# Altium integrated library AD Variable Gain Amplifier.IntLib: 9 symbols
Pins are listed as number, name and electrical type; pins without a type are passive.

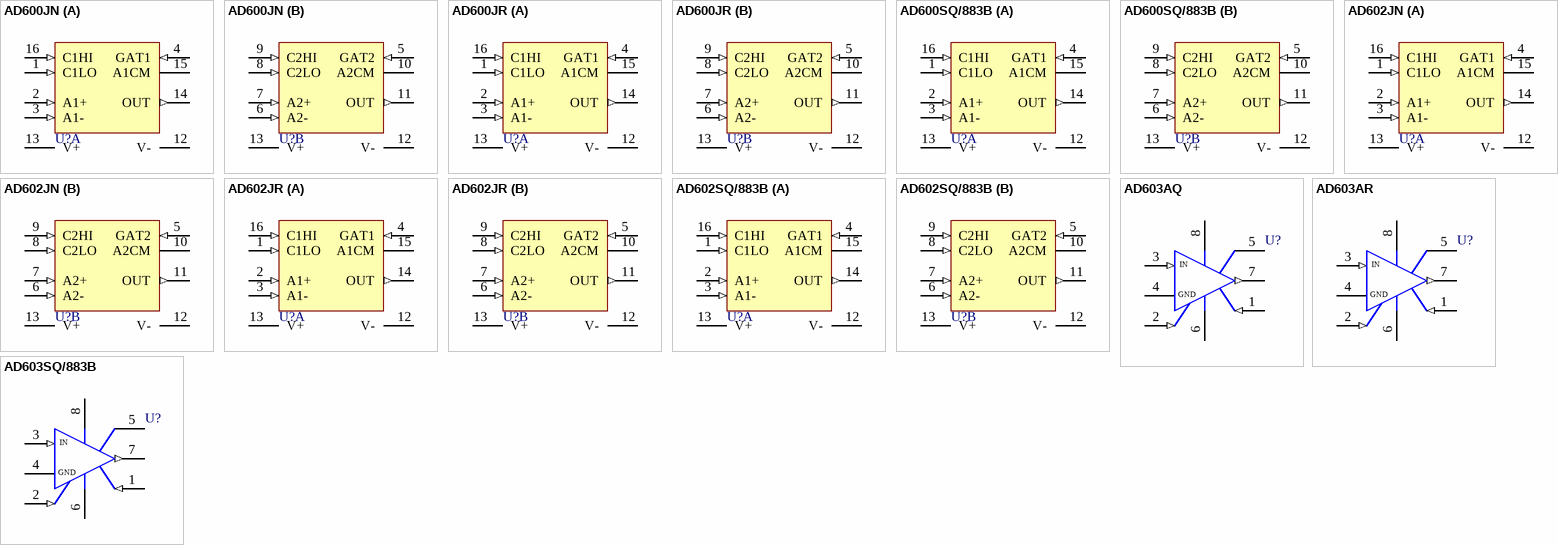
[diagram p0: symbols AD600JN to AD603SQ/883B]

## AD600JN
designator U?
Dual, Low-Noise, Wideband Variable Gain Amplifier; Published: 8-Jun-2000; LatestRevisionDate: 04-Mar-2005; LatestRevisionNote: Stylized 3D Model Added.; DatasheetVersion: REV. A 1999; PackageVersion: revC; PackageReference: N-16_B; Publisher: Altium Limited; PackageDescription: DIP; 16 Leads; Row Spacing 7.62 mm; Pitch 2.54 mm; ComponentLink1Description: Manufacturer Link; ComponentLink1URL: http://www.analog.com/en/prod/0%2C2877%2CAD600%2C00.html; ComponentLink2Description: Datasheet; ComponentLink2URL: http://www.analog.com/UploadedFiles/Data_Sheets/470616575AD600_2_d.pdf
footprint N-16_B (DIP; 16 Leads; Row Spacing 7.62 mm; Pitch 2.54 mm)
3D model N16-B (DIP; 16 Leads; Row Spacing 7.62 mm; Pitch 2.54 mm)
simulation model AD600J (SUBCKT)
pins on every part: 12 V- (power), 13 V+ (power)
part A pins: 1 C1LO (in), 2 A1+ (in), 3 A1- (in), 4 GAT1 (in), 14 OUT (out), 15 A1CM, 16 C1HI (in)
part B pins: 5 GAT2 (in), 6 A2- (in), 7 A2+ (in), 8 C2LO (in), 9 C2HI (in), 10 A2CM, 11 OUT (out)

## AD600JR
designator U?
Dual, Low-Noise, Wideband Variable Gain Amplifier; Published: 8-Jun-2000; LatestRevisionDate: 13-Apr-2006; LatestRevisionNote: IPC-7351 Footprint Added.; DatasheetVersion: REV. A 1999; PackageVersion: revA 1996; PackageReference: R-16; Publisher: Altium Limited; PackageDescription: 16-Pin Small Outline Integrated Circuit 1.27 mm Pitch; Code_JEDEC: MS-013-AA; Code_IPC: SOIC127P1030-16; ComponentLink1Description: Manufacturer Link; ComponentLink1URL: http://www.analog.com/en/prod/0%2C2877%2CAD600%2C00.html; ComponentLink2Description: Datasheet; ComponentLink2URL: http://www.analog.com/UploadedFiles/Data_Sheets/470616575AD600_2_d.pdf
footprint R-16_N (SOIC, 16-Leads, Body 10.3x7.5mm, Pitch 1.27mm, IPC Medium Density)
footprint R-16_L (SOIC, 16-Leads, Body 10.3x7.5mm, Pitch 1.27mm, IPC High Density)
footprint R-16_M (SOIC, 16-Leads, Body 10.3x7.5mm, Pitch 1.27mm, IPC Low Density)
3D model R-16 (16-Pin Small Outline Integrated Circuit 1.27 mm Pitch)
simulation model AD600J (SUBCKT)
pins on every part: 12 V- (power), 13 V+ (power)
part A pins: 1 C1LO (in), 2 A1+ (in), 3 A1- (in), 4 GAT1 (in), 14 OUT (out), 15 A1CM, 16 C1HI (in)
part B pins: 5 GAT2 (in), 6 A2- (in), 7 A2+ (in), 8 C2LO (in), 9 C2HI (in), 10 A2CM, 11 OUT (out)

## AD600SQ/883B
designator U?
Dual, Low-Noise, Wideband Variable Gain Amplifier; Published: 8-Jun-2000; LatestRevisionDate: 04-Mar-2005; LatestRevisionNote: Stylized 3D Model Added.; DatasheetVersion: REV. A 1999; PackageVersion: 1996; PackageReference: Q-16; Publisher: Altium Limited; PackageDescription: DIP; 16 Leads; Row Spacing 7.62 mm; Pitch 2.54 mm; ComponentLink1Description: Manufacturer Link; ComponentLink1URL: http://www.analog.com/en/prod/0%2C2877%2CAD600%2C00.html; ComponentLink2Description: Datasheet; ComponentLink2URL: http://www.analog.com/UploadedFiles/Data_Sheets/470616575AD600_2_d.pdf
footprint Q-16 (DIP; 16 Leads; Row Spacing 7.62 mm; Pitch 2.54 mm)
3D model Q16 (DIP; 16 Leads; Row Spacing 7.62 mm; Pitch 2.54 mm)
simulation model AD600 (SUBCKT)
pins on every part: 12 V- (power), 13 V+ (power)
part A pins: 1 C1LO (in), 2 A1+ (in), 3 A1- (in), 4 GAT1 (in), 14 OUT (out), 15 A1CM, 16 C1HI (in)
part B pins: 5 GAT2 (in), 6 A2- (in), 7 A2+ (in), 8 C2LO (in), 9 C2HI (in), 10 A2CM, 11 OUT (out)

## AD602JN
designator U?
Dual, Low-Noise, Wideband Variable Gain Amplifier; Published: 8-Jun-2000; LatestRevisionDate: 04-Mar-2005; LatestRevisionNote: Stylized 3D Model Added.; DatasheetVersion: REV. A 1999; PackageVersion: revC; PackageReference: N-16_B; Publisher: Altium Limited; PackageDescription: DIP; 16 Leads; Row Spacing 7.62 mm; Pitch 2.54 mm; ComponentLink1Description: Manufacturer Link; ComponentLink1URL: http://www.analog.com/en/prod/0%2C2877%2CAD600%2C00.html; ComponentLink2Description: Datasheet; ComponentLink2URL: http://www.analog.com/UploadedFiles/Data_Sheets/470616575AD600_2_d.pdf
footprint N-16_B (DIP; 16 Leads; Row Spacing 7.62 mm; Pitch 2.54 mm)
3D model N16-B (DIP; 16 Leads; Row Spacing 7.62 mm; Pitch 2.54 mm)
simulation model AD602J (SUBCKT)
pins on every part: 12 V- (power), 13 V+ (power)
part A pins: 1 C1LO (in), 2 A1+ (in), 3 A1- (in), 4 GAT1 (in), 14 OUT (out), 15 A1CM, 16 C1HI (in)
part B pins: 5 GAT2 (in), 6 A2- (in), 7 A2+ (in), 8 C2LO (in), 9 C2HI (in), 10 A2CM, 11 OUT (out)

## AD602JR
designator U?
Dual, Low-Noise, Wideband Variable Gain Amplifier; Published: 8-Jun-2000; LatestRevisionDate: 13-Apr-2006; LatestRevisionNote: IPC-7351 Footprint Added.; DatasheetVersion: REV. A 1999; PackageVersion: revA 1996; PackageReference: R-16; Publisher: Altium Limited; PackageDescription: 16-Pin Small Outline Integrated Circuit 1.27 mm Pitch; Code_JEDEC: MS-013-AA; Code_IPC: SOIC127P1030-16; ComponentLink1Description: Manufacturer Link; ComponentLink1URL: http://www.analog.com/en/prod/0%2C2877%2CAD600%2C00.html; ComponentLink2Description: Datasheet; ComponentLink2URL: http://www.analog.com/UploadedFiles/Data_Sheets/470616575AD600_2_d.pdf
footprint R-16_N (SOIC, 16-Leads, Body 10.3x7.5mm, Pitch 1.27mm, IPC Medium Density)
footprint R-16_L (SOIC, 16-Leads, Body 10.3x7.5mm, Pitch 1.27mm, IPC High Density)
footprint R-16_M (SOIC, 16-Leads, Body 10.3x7.5mm, Pitch 1.27mm, IPC Low Density)
3D model R-16 (16-Pin Small Outline Integrated Circuit 1.27 mm Pitch)
simulation model AD602J (SUBCKT)
pins on every part: 12 V- (power), 13 V+ (power)
part A pins: 1 C1LO (in), 2 A1+ (in), 3 A1- (in), 4 GAT1 (in), 14 OUT (out), 15 A1CM, 16 C1HI (in)
part B pins: 5 GAT2 (in), 6 A2- (in), 7 A2+ (in), 8 C2LO (in), 9 C2HI (in), 10 A2CM, 11 OUT (out)

## AD602SQ/883B
designator U?
Dual, Low-Noise, Wideband Variable Gain Amplifier; Published: 8-Jun-2000; LatestRevisionDate: 04-Mar-2005; LatestRevisionNote: Stylized 3D Model Added.; DatasheetVersion: REV. A 1999; PackageVersion: 1996; PackageReference: Q-16; Publisher: Altium Limited; PackageDescription: DIP; 16 Leads; Row Spacing 7.62 mm; Pitch 2.54 mm; ComponentLink1Description: Manufacturer Link; ComponentLink1URL: http://www.analog.com/en/prod/0%2C2877%2CAD600%2C00.html; ComponentLink2Description: Datasheet; ComponentLink2URL: http://www.analog.com/UploadedFiles/Data_Sheets/470616575AD600_2_d.pdf
footprint Q-16 (DIP; 16 Leads; Row Spacing 7.62 mm; Pitch 2.54 mm)
3D model Q16 (DIP; 16 Leads; Row Spacing 7.62 mm; Pitch 2.54 mm)
simulation model AD602 (SUBCKT)
pins on every part: 12 V- (power), 13 V+ (power)
part A pins: 1 C1LO (in), 2 A1+ (in), 3 A1- (in), 4 GAT1 (in), 14 OUT (out), 15 A1CM, 16 C1HI (in)
part B pins: 5 GAT2 (in), 6 A2- (in), 7 A2+ (in), 8 C2LO (in), 9 C2HI (in), 10 A2CM, 11 OUT (out)

## AD603AQ
designator U?
Low-Noise, 90MHz Variable Gain Amplifier; Published: 8-Jun-2000; LatestRevisionDate: 04-Mar-2005; LatestRevisionNote: Stylized 3D Model Added.; DatasheetVersion: REV. B 1995; PackageVersion: 1998; PackageReference: Q-8; Publisher: Altium Limited; PackageDescription: DIP; 8 Leads; Row Spacing 7.62 mm; Pitch 2.54 mm; ComponentLink1Description: Manufacturer Link; ComponentLink1URL: http://www.analog.com/en/prod/0%2C2877%2CAD603%2C00.html; ComponentLink2Description: Datasheet; ComponentLink2URL: http://www.analog.com/UploadedFiles/Data_Sheets/118914572AD603_g.pdf
footprint Q-8 (DIP; 8 Leads; Row Spacing 7.62 mm; Pitch 2.54 mm)
3D model Q8 (DIP; 8 Leads; Row Spacing 7.62 mm; Pitch 2.54 mm)
simulation model AD603A (SUBCKT)
pins: 1 G+ (in), 2 G- (in), 3 VINP (in), 4 COMM (power), 5 FDBK, 6 V- (power), 7 VOUT (out), 8 V+ (power)
text: IN; GND

## AD603AR
designator U?
Low-Noise, 90MHz Variable Gain Amplifier; Published: 8-Jun-2000; LatestRevisionDate: 13-Apr-2006; LatestRevisionNote: IPC-7351 Footprint Added.; DatasheetVersion: REV. B 1995; PackageVersion: 2005; PackageReference: R-8; Publisher: Altium Limited; PackageDescription: 8-Pin Narrow Body Small Outline Integrated Circuit 1.27 mm Pitch; Code_JEDEC: MS-012-AA; Code_IPC: SOIC127P600-8; ComponentLink1Description: Manufacturer Link; ComponentLink1URL: http://www.analog.com/en/prod/0%2C2877%2CAD603%2C00.html; ComponentLink2Description: Datasheet; ComponentLink2URL: http://www.analog.com/UploadedFiles/Data_Sheets/118914572AD603_g.pdf
footprint R-8_N (SOIC, 8-Leads, Body 4.9x3.9mm, Pitch 1.27mm, IPC Medium Density)
footprint R-8_L (SOIC, 8-Leads, Body 4.9x3.9mm, Pitch 1.27mm, IPC High Density)
footprint R-8_M (SOIC, 8-Leads, Body 4.9x3.9mm, Pitch 1.27mm, IPC Low Density)
3D model R-8 (8-Pin Narrow Body Small Outline Integrated Circuit 1.27 mm Pitch)
simulation model AD603A (SUBCKT)
pins: 1 G+ (in), 2 G- (in), 3 VINP (in), 4 COMM (power), 5 FDBK, 6 V- (power), 7 VOUT (out), 8 V+ (power)
text: IN; GND

## AD603SQ/883B
designator U?
Low-Noise, 90MHz Variable Gain Amplifier; Published: 8-Jun-2000; LatestRevisionDate: 04-Mar-2005; LatestRevisionNote: Stylized 3D Model Added.; DatasheetVersion: REV. B 1995; PackageVersion: 1998; PackageReference: Q-8; Publisher: Altium Limited; PackageDescription: DIP; 8 Leads; Row Spacing 7.62 mm; Pitch 2.54 mm; ComponentLink1Description: Manufacturer Link; ComponentLink1URL: http://www.analog.com/en/prod/0%2C2877%2CAD603%2C00.html; ComponentLink2Description: Datasheet; ComponentLink2URL: http://www.analog.com/UploadedFiles/Data_Sheets/118914572AD603_g.pdf
footprint Q-8 (DIP; 8 Leads; Row Spacing 7.62 mm; Pitch 2.54 mm)
3D model Q8 (DIP; 8 Leads; Row Spacing 7.62 mm; Pitch 2.54 mm)
simulation model AD603 (SUBCKT)
pins: 1 G+ (in), 2 G- (in), 3 VINP (in), 4 COMM (power), 5 FDBK, 6 V- (power), 7 VOUT (out), 8 V+ (power)
text: IN; GND